# EAGLE library part MC33153PG (library ON Semiconductor_By_element14_Batch_1)
Single IGBT Gate Driver
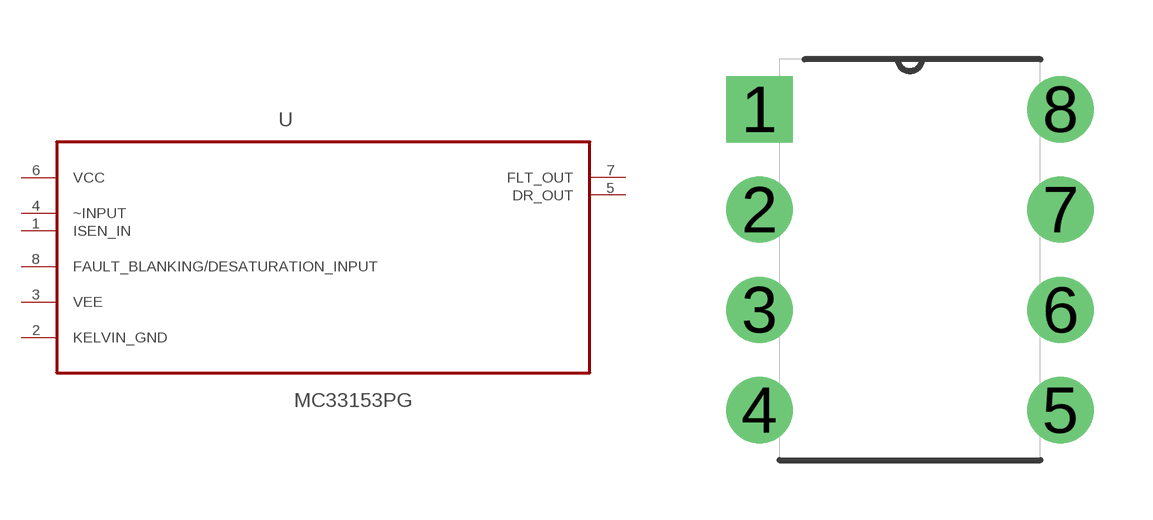
[diagram p350: symbol with the pads of DIP254P762X445-8; footprint DIP254P762X445-8]

Designator prefix U

## MC33153PG (MPN: MC33153PG; OC_FARNELL: 1104713; OC_NEWARK: 42K0581; P1I: o; PACKAGE: PDIP; SUPPLIER: ON SEMICONDUCTOR)  [DIP254P762X445-8]
1  ISEN_IN  in
2  KELVIN_GND  pas
3  VEE  pas
4  ~INPUT  in
5  DR_OUT  out
6  VCC  pwr
7  FLT_OUT  out
8  FAULT_BLANKING/DESATURATION_INPUT  in

## Footprint DIP254P762X445-8 (pad centres in mm)
drill 1.118 square: 1 -7.62,7.62
drill 1.118: 2 -7.62,5.08; 3 -7.62,2.54; 4 -7.62,0; 5 0,0; 6 0,2.54; 7 0,5.08; 8 0,7.62